# Altium footprint library x1son_2_100x60x45.PcbLib: 1 footprints
Each footprint in its own frame and in the unit in brackets; x right, y up, seen from the top. Pads: shape width x height; smd on the part's side, far side on the other; paste and mask are expansions set on the pad; w line width, h text height; cw(c..) or ccw(c..) is an arc to the next point about the centre after c.
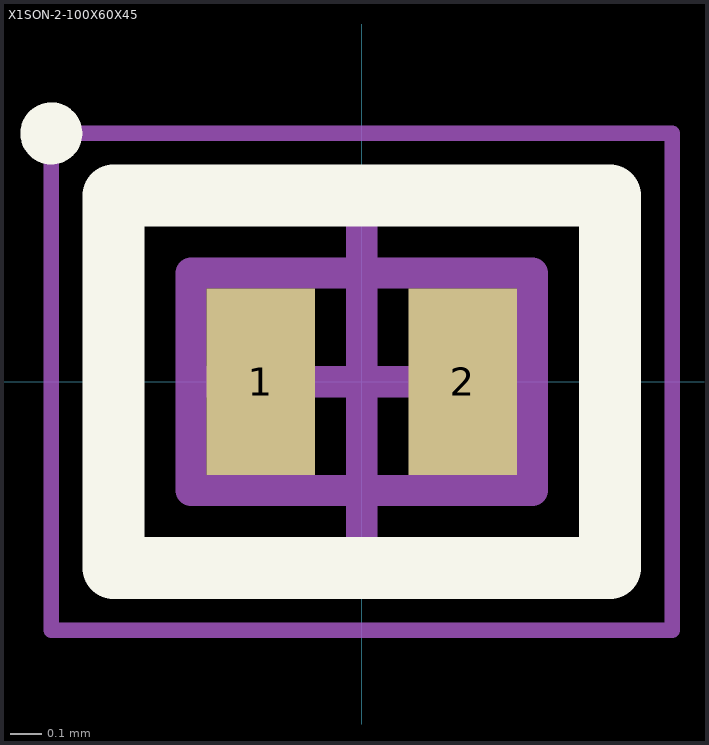
[diagram p0: the footprint, top view; thin cyan lines are the x and y axes]

## X1SON-2-100X60X45 [mm] "DFN, 2-Leads, Body 0,60x1,00mm, Pitch 0,65mm, IPC Medium Density"
height 0.45
pads (2):
  rect 0.35x0.6 smd: 1(-0.325,0) 2(0.325,0)
Top Overlay:
  circle w0.1: c-1,0.8 r0.05
  lines w0.2: -0.8,-0.6 0.8,-0.6 0.8,0.6 -0.8,0.6 -0.8,-0.6
Top Comment:
  text ".Comment" at 0.9,1 h1.2
Top Designator:
  text ".Designator" at -0.6,1 h1.2
Top Component Outline:
  lines w0.1: -0.55,-0.35 -0.55,0.35 0.55,0.35 0.55,-0.35 -0.55,-0.35
Top Courtyard (Mech15):
  lines w0.05: -1,-0.8 -1,0.8 1,0.8 1,-0.8 -1,-0.8
  lines w0.1: -0.5,0 0.5,0 ; 0,-0.5 0,0.5
3D body "DPY0002A.stp": height 0.45, standoff 0, extent -0.5,-0.3 0.5,0.3